# Altium footprint library L2U.PcbLib: 1 footprints
Each footprint in its own frame and in the unit in brackets; x right, y up, seen from the top. Pads: shape width x height; smd on the part's side, far side on the other; paste and mask are expansions set on the pad; w line width, h text height; cw(c..) or ccw(c..) is an arc to the next point about the centre after c.
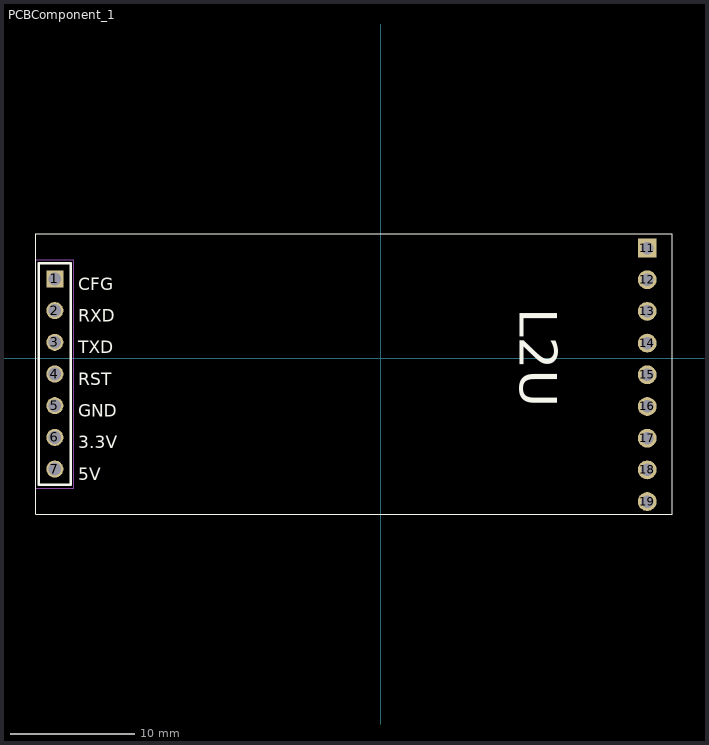
[diagram p0: the footprint, top view; thin cyan lines are the x and y axes]

## PCBComponent_1 [mm]
pads (16):
  rect 1.37x1.37 hole 1.02: 1(-26.135,6.35)
  round 1.37 hole 1.02: 2(-26.135,3.81) 3(-26.135,1.27) 4(-26.135,-1.27) 5(-26.135,-3.81) 6(-26.135,-6.35) 7(-26.135,-8.89)
  rect 1.508x1.508 hole 1: 11(21.341,8.826)
  round 1.508 hole 1: 12(21.341,6.286) 13(21.341,3.746) 14(21.341,1.206) 15(21.341,-1.334) 16(21.341,-3.874) 17(21.341,-6.414) 18(21.341,-8.954) 19(21.341,-11.494)
Top Overlay:
  lines w0.1: -27.659,-12.52 -27.659,9.98 23.341,9.98 23.341,-12.52 -27.659,-12.52
  lines w0.2: -27.405,-10.16 -27.405,7.62 -24.865,7.62 -24.865,-10.16 -27.405,-10.16
  text "L2U" at 11.122,3.991 h3
  text "5V" at -24.257,-9.779 h1
  text "3.3V" at -24.257,-7.239 h1
  text "GND" at -24.257,-4.699 h1
  text "RST" at -24.257,-2.159 h1
  text "TXD" at -24.257,0.381 h1
  text "RXD" at -24.257,2.921 h1
  text "CFG" at -24.257,5.461 h1
Mechanical 13:
  lines w0.1: -27.405,-10.16 -27.405,7.62 ; -27.405,-10.16 -27.405,7.62 ; -27.405,-10.16 -24.865,-10.16 -24.865,7.62 -27.405,7.62
Mechanical 15:
  lines w0.05: -27.655,-10.41 -27.655,7.87 -24.615,7.87 -24.615,-10.41 -27.655,-10.41